# Altium footprint library 2020-11-22_16-30-49.PcbLib: 3 footprints
Each footprint in its own frame and in the unit in brackets; x right, y up, seen from the top. Pads: shape width x height; smd on the part's side, far side on the other; paste and mask are expansions set on the pad; w line width, h text height; cw(c..) or ccw(c..) is an arc to the next point about the centre after c.
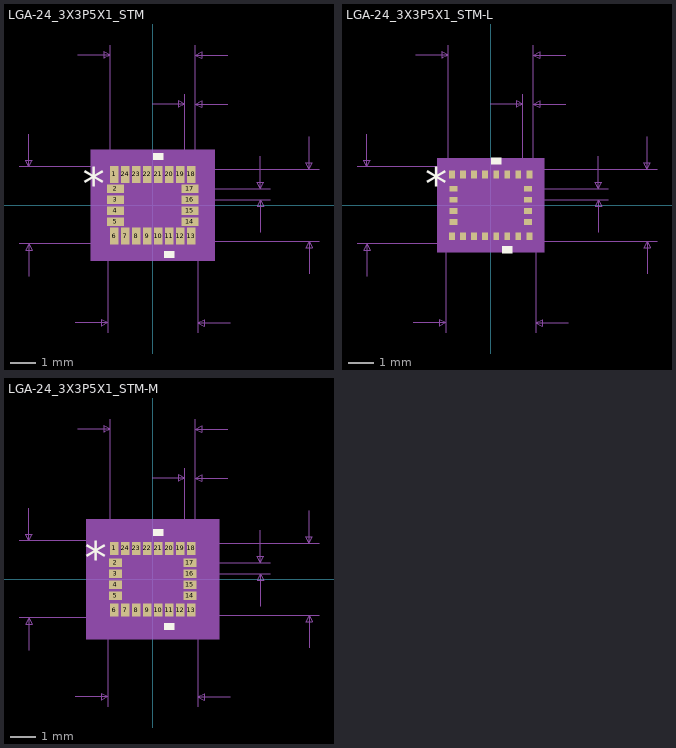
[diagram p0: the footprints below, top view; thin cyan lines are the x and y axes]

## LGA-24_3X3P5X1_STM [mm]
pads (24):
  rect 0.331x0.654 smd paste-0.065 mask+0.051: 1(-1.505,1.2) 6(-1.505,-1.2) 7(-1.075,-1.2) 8(-0.645,-1.2) 9(-0.215,-1.2) 10(0.215,-1.2) 11(0.645,-1.2) 12(1.075,-1.2) 13(1.505,-1.2) 18(1.505,1.2) 19(1.075,1.2) 20(0.645,1.2) 21(0.215,1.2) 22(-0.215,1.2) 23(-0.645,1.2) 24(-1.075,1.2)
  rect 0.654x0.331 smd paste-0.065 mask+0.051: 2(-1.45,0.645) 3(-1.45,0.215) 4(-1.45,-0.215) 5(-1.45,-0.645) 14(1.45,-0.645) 15(1.45,-0.215) 16(1.45,0.215) 17(1.45,0.645)
Top Overlay:
  region: 0.835,-1.781 0.454,-1.781 0.454,-2.035 0.835,-2.035
  region: 0.406,1.781 0.025,1.781 0.025,2.035 0.406,2.035
  text "*" at -2.73,0.225 h1.27
Mechanical 5:
  region: 2.412,-2.162 -2.412,-2.162 -2.412,2.162 2.412,2.162
Mechanical 7:
  lines w0.025: -5.206,-1.5 1.75,-1.5 ; -5.206,1.5 1.75,1.5 1.75,-4.956 ; -4.825,-2.77 -4.825,-1.5 ; -4.825,2.77 -4.825,1.5 ; -3.02,-4.575 -1.75,-4.575 ; -2.92,5.845 -1.65,5.845 ; -1.75,-4.956 -1.75,1.5 ; -1.65,0.645 -1.65,6.226 ; -0.02,3.94 1.25,3.94 ; 1.25,0.645 1.25,4.321 ; 1.45,0.215 4.571,0.215 ; 1.45,0.645 4.571,0.645 ; 1.505,-1.4 6.476,-1.4 ; 1.505,1.4 6.476,1.4 ; 1.65,4.321 1.65,0.645 1.65,6.226 ; 2.92,3.94 1.65,3.94 ; 2.92,5.845 1.65,5.845 ; 3.02,-4.575 1.75,-4.575 ; 4.19,-1.055 4.19,0.215 ; 4.19,1.915 4.19,0.645 ; 6.095,-2.67 6.095,-1.4 ; 6.095,2.67 6.095,1.4 ; -4.825,-1.5 -4.952,-1.754 -4.698,-1.754 -4.825,-1.5 ; -4.825,1.5 -4.952,1.754 -4.698,1.754 -4.825,1.5 ; -1.75,-4.575 -2.004,-4.448 -2.004,-4.702 -1.75,-4.575 ; -1.65,5.845 -1.904,5.972 -1.904,5.718 -1.65,5.845 ; 1.25,3.94 0.996,4.067 0.996,3.813 1.25,3.94 ; 1.65,3.94 1.904,4.067 1.904,3.813 1.65,3.94 ; 1.65,5.845 1.904,5.972 1.904,5.718 1.65,5.845 ; 1.75,-4.575 2.004,-4.448 2.004,-4.702 1.75,-4.575 ; 4.19,0.215 4.063,-0.039 4.317,-0.039 4.19,0.215 ; 4.19,0.645 4.063,0.899 4.317,0.899 4.19,0.645 ; 6.095,-1.4 5.968,-1.654 6.222,-1.654 6.095,-1.4 ; 6.095,1.4 5.968,1.654 6.222,1.654 6.095,1.4
  text "Default Padstyle: RX13p02Y25p75D0TSM" at -11.43,-9.401 h1.27
  text "Alt 1 Padstyle: OX60Y90D30P" at -8.572,-13.973 h1.27
  text "Alt 2 Padstyle: OX90Y60D30P" at -8.572,-15.497 h1.27
  text "0.017in/0.43mm" at 4.698,0.112 h0.64
  text "0.016in/0.4mm" at -0.614,4.448 h0.64
  text "0.13in/3.3mm" at -1.905,6.353 h0.64
  text "0.11in/2.8mm" at 6.603,-0.318 h0.64
  text "0.118in/3mm" at -8.826,-0.318 h0.64
  text "0.138in/3.5mm" at -2.064,-5.718 h0.64
Mechanical 13:
  lines w0.025: -1.75,0.23 -0.48,1.5 ; -1.75,-1.5 1.75,-1.5 ; -1.75,-1.5 -1.75,1.5 ; -1.75,-1.5 -1.75,-1.5 ; -1.75,1.5 1.75,1.5 ; -1.75,1.5 -1.75,1.5 ; 1.75,-1.5 1.75,-1.5 ; 1.75,-1.5 1.75,1.5 ; 1.75,1.5 1.75,1.5 ; -1.75,-0.785 -1.75,-0.505 -1.65,-0.505 -1.65,-0.785 -1.75,-0.785 ; -1.75,-0.355 -1.75,-0.075 -1.65,-0.075 -1.65,-0.355 -1.75,-0.355 ; -1.75,0.075 -1.75,0.355 -1.65,0.355 -1.65,0.075 -1.75,0.075 ; -1.75,0.505 -1.75,0.785 -1.65,0.785 -1.65,0.505 -1.75,0.505 ; -1.645,-1.5 -1.365,-1.5 -1.365,-1.4 -1.645,-1.4 -1.645,-1.5 ; -1.645,1.4 -1.365,1.4 -1.365,1.5 -1.645,1.5 -1.645,1.4 ; -1.215,-1.5 -0.935,-1.5 -0.935,-1.4 -1.215,-1.4 -1.215,-1.5 ; -1.215,1.4 -0.935,1.4 -0.935,1.5 -1.215,1.5 -1.215,1.4 ; -0.785,-1.5 -0.505,-1.5 -0.505,-1.4 -0.785,-1.4 -0.785,-1.5 ; -0.785,1.4 -0.505,1.4 -0.505,1.5 -0.785,1.5 -0.785,1.4 ; -0.355,-1.5 -0.075,-1.5 -0.075,-1.4 -0.355,-1.4 -0.355,-1.5 ; -0.355,1.4 -0.075,1.4 -0.075,1.5 -0.355,1.5 -0.355,1.4 ; 0.075,-1.5 0.355,-1.5 0.355,-1.4 0.075,-1.4 0.075,-1.5 ; 0.075,1.4 0.355,1.4 0.355,1.5 0.075,1.5 0.075,1.4 ; 0.505,-1.5 0.785,-1.5 0.785,-1.4 0.505,-1.4 0.505,-1.5 ; 0.505,1.4 0.785,1.4 0.785,1.5 0.505,1.5 0.505,1.4 ; 0.935,-1.5 1.215,-1.5 1.215,-1.4 0.935,-1.4 0.935,-1.5 ; 0.935,1.4 1.215,1.4 1.215,1.5 0.935,1.5 0.935,1.4 ; 1.365,-1.5 1.645,-1.5 1.645,-1.4 1.365,-1.4 1.365,-1.5 ; 1.365,1.4 1.645,1.4 1.645,1.5 1.365,1.5 1.365,1.4 ; 1.65,-0.785 1.75,-0.785 1.75,-0.505 1.65,-0.505 1.65,-0.785 ; 1.65,-0.355 1.75,-0.355 1.75,-0.075 1.65,-0.075 1.65,-0.355 ; 1.65,0.075 1.75,0.075 1.75,0.355 1.65,0.355 1.65,0.075 ; 1.65,0.505 1.75,0.505 1.75,0.785 1.65,0.785 1.65,0.505
  text "*" at -1.441,0.225 h1.27
Mechanical 15:
  region: -1.924,-1.754 -2.004,-1.754 -2.004,-1.064 -2.031,-1.064 -2.031,1.064 -2.004,1.064 -2.004,1.754 -1.924,1.754 -1.924,1.781 1.924,1.781 1.924,1.754 2.004,1.754 2.004,1.064 2.031,1.064 2.031,-1.064 2.004,-1.064 2.004,-1.754 1.924,-1.754 1.924,-1.781 -1.924,-1.781
  lines w0.152: -2.031,-1.064 -2.004,-1.064 -2.004,-1.754 -1.924,-1.754 -1.924,-1.781 1.924,-1.781 1.924,-1.754 2.004,-1.754 2.004,-1.064 2.031,-1.064 2.031,1.064 2.004,1.064 2.004,1.754 1.924,1.754 1.924,1.781 -1.924,1.781 -1.924,1.754 -2.004,1.754 -2.004,1.064 -2.031,1.064 -2.031,-1.064
3D body: height 0.25, standoff 0, extent 0,0 0.254,0.254

## LGA-24_3X3P5X1_STM-L [mm]
pads (24):
  rect 0.229x0.298 smd paste+0 mask+0: 1(-1.505,1.2) 6(-1.505,-1.2) 7(-1.075,-1.2) 8(-0.645,-1.2) 9(-0.215,-1.2) 10(0.215,-1.2) 11(0.645,-1.2) 12(1.075,-1.2) 13(1.505,-1.2) 18(1.505,1.2) 19(1.075,1.2) 20(0.645,1.2) 21(0.215,1.2) 22(-0.215,1.2) 23(-0.645,1.2) 24(-1.075,1.2)
  rect 0.298x0.229 smd paste+0 mask+0: 2(-1.45,0.645) 3(-1.45,0.215) 4(-1.45,-0.215) 5(-1.45,-0.645) 14(1.45,-0.645) 15(1.45,-0.215) 16(1.45,0.215) 17(1.45,0.645)
Top Overlay:
  region: 0.835,-1.603 0.454,-1.603 0.454,-1.857 0.835,-1.857
  region: 0.406,1.603 0.025,1.603 0.025,1.857 0.406,1.857
  text "*" at -2.552,0.225 h1.27
Mechanical 5:
  region: 2.082,-1.832 -2.082,-1.832 -2.082,1.832 2.082,1.832
Mechanical 7:
  lines w0.025: -5.206,-1.5 1.75,-1.5 ; -5.206,1.5 1.75,1.5 1.75,-4.956 ; -4.825,-2.77 -4.825,-1.5 ; -4.825,2.77 -4.825,1.5 ; -3.02,-4.575 -1.75,-4.575 ; -2.92,5.845 -1.65,5.845 ; -1.75,-4.956 -1.75,1.5 ; -1.65,0.645 -1.65,6.226 ; -0.02,3.94 1.25,3.94 ; 1.25,0.645 1.25,4.321 ; 1.45,0.215 4.571,0.215 ; 1.45,0.645 4.571,0.645 ; 1.505,-1.4 6.476,-1.4 ; 1.505,1.4 6.476,1.4 ; 1.65,4.321 1.65,0.645 1.65,6.226 ; 2.92,3.94 1.65,3.94 ; 2.92,5.845 1.65,5.845 ; 3.02,-4.575 1.75,-4.575 ; 4.19,-1.055 4.19,0.215 ; 4.19,1.915 4.19,0.645 ; 6.095,-2.67 6.095,-1.4 ; 6.095,2.67 6.095,1.4 ; -4.825,-1.5 -4.952,-1.754 -4.698,-1.754 -4.825,-1.5 ; -4.825,1.5 -4.952,1.754 -4.698,1.754 -4.825,1.5 ; -1.75,-4.575 -2.004,-4.448 -2.004,-4.702 -1.75,-4.575 ; -1.65,5.845 -1.904,5.972 -1.904,5.718 -1.65,5.845 ; 1.25,3.94 0.996,4.067 0.996,3.813 1.25,3.94 ; 1.65,3.94 1.904,4.067 1.904,3.813 1.65,3.94 ; 1.65,5.845 1.904,5.972 1.904,5.718 1.65,5.845 ; 1.75,-4.575 2.004,-4.448 2.004,-4.702 1.75,-4.575 ; 4.19,0.215 4.063,-0.039 4.317,-0.039 4.19,0.215 ; 4.19,0.645 4.063,0.899 4.317,0.899 4.19,0.645 ; 6.095,-1.4 5.968,-1.654 6.222,-1.654 6.095,-1.4 ; 6.095,1.4 5.968,1.654 6.222,1.654 6.095,1.4
  text "Default Padstyle: RX9p02Y11p75D0T" at -10.477,-9.223 h1.27
  text "Alt 1 Padstyle: OX60Y90D30P" at -8.572,-13.795 h1.27
  text "Alt 2 Padstyle: OX90Y60D30P" at -8.572,-15.319 h1.27
  text "0.017in/0.43mm" at 4.698,0.112 h0.64
  text "0.016in/0.4mm" at -0.614,4.448 h0.64
  text "0.13in/3.3mm" at -1.905,6.353 h0.64
  text "0.11in/2.8mm" at 6.603,-0.318 h0.64
  text "0.118in/3mm" at -8.826,-0.318 h0.64
  text "0.138in/3.5mm" at -2.064,-5.718 h0.64
Mechanical 13:
  lines w0.025: -1.75,0.23 -0.48,1.5 ; -1.75,-1.5 1.75,-1.5 ; -1.75,-1.5 -1.75,1.5 ; -1.75,-1.5 -1.75,-1.5 ; -1.75,1.5 1.75,1.5 ; -1.75,1.5 -1.75,1.5 ; 1.75,-1.5 1.75,-1.5 ; 1.75,-1.5 1.75,1.5 ; 1.75,1.5 1.75,1.5 ; -1.75,-0.785 -1.75,-0.505 -1.65,-0.505 -1.65,-0.785 -1.75,-0.785 ; -1.75,-0.355 -1.75,-0.075 -1.65,-0.075 -1.65,-0.355 -1.75,-0.355 ; -1.75,0.075 -1.75,0.355 -1.65,0.355 -1.65,0.075 -1.75,0.075 ; -1.75,0.505 -1.75,0.785 -1.65,0.785 -1.65,0.505 -1.75,0.505 ; -1.645,-1.5 -1.365,-1.5 -1.365,-1.4 -1.645,-1.4 -1.645,-1.5 ; -1.645,1.4 -1.365,1.4 -1.365,1.5 -1.645,1.5 -1.645,1.4 ; -1.215,-1.5 -0.935,-1.5 -0.935,-1.4 -1.215,-1.4 -1.215,-1.5 ; -1.215,1.4 -0.935,1.4 -0.935,1.5 -1.215,1.5 -1.215,1.4 ; -0.785,-1.5 -0.505,-1.5 -0.505,-1.4 -0.785,-1.4 -0.785,-1.5 ; -0.785,1.4 -0.505,1.4 -0.505,1.5 -0.785,1.5 -0.785,1.4 ; -0.355,-1.5 -0.075,-1.5 -0.075,-1.4 -0.355,-1.4 -0.355,-1.5 ; -0.355,1.4 -0.075,1.4 -0.075,1.5 -0.355,1.5 -0.355,1.4 ; 0.075,-1.5 0.355,-1.5 0.355,-1.4 0.075,-1.4 0.075,-1.5 ; 0.075,1.4 0.355,1.4 0.355,1.5 0.075,1.5 0.075,1.4 ; 0.505,-1.5 0.785,-1.5 0.785,-1.4 0.505,-1.4 0.505,-1.5 ; 0.505,1.4 0.785,1.4 0.785,1.5 0.505,1.5 0.505,1.4 ; 0.935,-1.5 1.215,-1.5 1.215,-1.4 0.935,-1.4 0.935,-1.5 ; 0.935,1.4 1.215,1.4 1.215,1.5 0.935,1.5 0.935,1.4 ; 1.365,-1.5 1.645,-1.5 1.645,-1.4 1.365,-1.4 1.365,-1.5 ; 1.365,1.4 1.645,1.4 1.645,1.5 1.365,1.5 1.365,1.4 ; 1.65,-0.785 1.75,-0.785 1.75,-0.505 1.65,-0.505 1.65,-0.785 ; 1.65,-0.355 1.75,-0.355 1.75,-0.075 1.65,-0.075 1.65,-0.355 ; 1.65,0.075 1.75,0.075 1.75,0.355 1.65,0.355 1.65,0.075 ; 1.65,0.505 1.75,0.505 1.75,0.785 1.65,0.785 1.65,0.505
  text "*" at -1.618,0.225 h1.27
Mechanical 15:
  region: -1.721,-1.602 -1.852,-1.602 -1.852,-0.861 -1.852,0.861 -1.852,1.602 -1.721,1.602 1.721,1.602 1.852,1.602 1.852,0.861 1.852,-0.861 1.852,-1.602 1.721,-1.602
  lines w0.152: -1.852,-0.861 -1.852,-1.602 -1.721,-1.602 ; -1.852,-0.861 -1.852,-0.861 ; -1.852,-0.861 -1.852,0.861 ; -1.852,0.861 -1.852,0.861 ; -1.852,0.861 -1.852,1.602 -1.721,1.602 ; -1.721,-1.602 1.721,-1.602 ; -1.721,-1.602 -1.721,-1.602 ; -1.721,1.602 -1.721,1.602 ; -1.721,1.602 1.721,1.602 ; 1.721,-1.602 1.852,-1.602 1.852,-0.861 ; 1.721,-1.602 1.721,-1.602 ; 1.721,1.602 1.721,1.602 ; 1.721,1.602 1.852,1.602 1.852,0.861 ; 1.852,-0.861 1.852,0.861 ; 1.852,-0.861 1.852,-0.861 ; 1.852,0.861 1.852,0.861
3D body: height 0.25, standoff 0, extent 0,0 0.254,0.254

## LGA-24_3X3P5X1_STM-M [mm]
pads (24):
  rect 0.331x0.502 smd paste+0 mask+0: 1(-1.505,1.2) 6(-1.505,-1.2) 7(-1.075,-1.2) 8(-0.645,-1.2) 9(-0.215,-1.2) 10(0.215,-1.2) 11(0.645,-1.2) 12(1.075,-1.2) 13(1.505,-1.2) 18(1.505,1.2) 19(1.075,1.2) 20(0.645,1.2) 21(0.215,1.2) 22(-0.215,1.2) 23(-0.645,1.2) 24(-1.075,1.2)
  rect 0.502x0.331 smd paste+0 mask+0: 2(-1.45,0.645) 3(-1.45,0.215) 4(-1.45,-0.215) 5(-1.45,-0.645) 14(1.45,-0.645) 15(1.45,-0.215) 16(1.45,0.215) 17(1.45,0.645)
Top Overlay:
  region: 0.835,-1.705 0.454,-1.705 0.454,-1.959 0.835,-1.959
  region: 0.406,1.705 0.025,1.705 0.025,1.959 0.406,1.959
  text "*" at -2.653,0.225 h1.27
Mechanical 5:
  region: 2.59,-2.34 -2.59,-2.34 -2.59,2.34 2.59,2.34
Mechanical 7:
  lines w0.025: -5.206,-1.5 1.75,-1.5 ; -5.206,1.5 1.75,1.5 1.75,-4.956 ; -4.825,-2.77 -4.825,-1.5 ; -4.825,2.77 -4.825,1.5 ; -3.02,-4.575 -1.75,-4.575 ; -2.92,5.845 -1.65,5.845 ; -1.75,-4.956 -1.75,1.5 ; -1.65,0.645 -1.65,6.226 ; -0.02,3.94 1.25,3.94 ; 1.25,0.645 1.25,4.321 ; 1.45,0.215 4.571,0.215 ; 1.45,0.645 4.571,0.645 ; 1.505,-1.4 6.476,-1.4 ; 1.505,1.4 6.476,1.4 ; 1.65,4.321 1.65,0.645 1.65,6.226 ; 2.92,3.94 1.65,3.94 ; 2.92,5.845 1.65,5.845 ; 3.02,-4.575 1.75,-4.575 ; 4.19,-1.055 4.19,0.215 ; 4.19,1.915 4.19,0.645 ; 6.095,-2.67 6.095,-1.4 ; 6.095,2.67 6.095,1.4 ; -4.825,-1.5 -4.952,-1.754 -4.698,-1.754 -4.825,-1.5 ; -4.825,1.5 -4.952,1.754 -4.698,1.754 -4.825,1.5 ; -1.75,-4.575 -2.004,-4.448 -2.004,-4.702 -1.75,-4.575 ; -1.65,5.845 -1.904,5.972 -1.904,5.718 -1.65,5.845 ; 1.25,3.94 0.996,4.067 0.996,3.813 1.25,3.94 ; 1.65,3.94 1.904,4.067 1.904,3.813 1.65,3.94 ; 1.65,5.845 1.904,5.972 1.904,5.718 1.65,5.845 ; 1.75,-4.575 2.004,-4.448 2.004,-4.702 1.75,-4.575 ; 4.19,0.215 4.063,-0.039 4.317,-0.039 4.19,0.215 ; 4.19,0.645 4.063,0.899 4.317,0.899 4.19,0.645 ; 6.095,-1.4 5.968,-1.654 6.222,-1.654 6.095,-1.4 ; 6.095,1.4 5.968,1.654 6.222,1.654 6.095,1.4
  text "Default Padstyle: RX13p02Y19p75D0TSM" at -11.43,-9.325 h1.27
  text "Alt 1 Padstyle: OX60Y90D30P" at -8.572,-13.897 h1.27
  text "Alt 2 Padstyle: OX90Y60D30P" at -8.572,-15.421 h1.27
  text "0.017in/0.43mm" at 4.698,0.112 h0.64
  text "0.016in/0.4mm" at -0.614,4.448 h0.64
  text "0.13in/3.3mm" at -1.905,6.353 h0.64
  text "0.11in/2.8mm" at 6.603,-0.318 h0.64
  text "0.118in/3mm" at -8.826,-0.318 h0.64
  text "0.138in/3.5mm" at -2.064,-5.718 h0.64
Mechanical 13:
  lines w0.025: -1.75,0.23 -0.48,1.5 ; -1.75,-1.5 1.75,-1.5 ; -1.75,-1.5 -1.75,1.5 ; -1.75,-1.5 -1.75,-1.5 ; -1.75,1.5 1.75,1.5 ; -1.75,1.5 -1.75,1.5 ; 1.75,-1.5 1.75,-1.5 ; 1.75,-1.5 1.75,1.5 ; 1.75,1.5 1.75,1.5 ; -1.75,-0.785 -1.75,-0.505 -1.65,-0.505 -1.65,-0.785 -1.75,-0.785 ; -1.75,-0.355 -1.75,-0.075 -1.65,-0.075 -1.65,-0.355 -1.75,-0.355 ; -1.75,0.075 -1.75,0.355 -1.65,0.355 -1.65,0.075 -1.75,0.075 ; -1.75,0.505 -1.75,0.785 -1.65,0.785 -1.65,0.505 -1.75,0.505 ; -1.645,-1.5 -1.365,-1.5 -1.365,-1.4 -1.645,-1.4 -1.645,-1.5 ; -1.645,1.4 -1.365,1.4 -1.365,1.5 -1.645,1.5 -1.645,1.4 ; -1.215,-1.5 -0.935,-1.5 -0.935,-1.4 -1.215,-1.4 -1.215,-1.5 ; -1.215,1.4 -0.935,1.4 -0.935,1.5 -1.215,1.5 -1.215,1.4 ; -0.785,-1.5 -0.505,-1.5 -0.505,-1.4 -0.785,-1.4 -0.785,-1.5 ; -0.785,1.4 -0.505,1.4 -0.505,1.5 -0.785,1.5 -0.785,1.4 ; -0.355,-1.5 -0.075,-1.5 -0.075,-1.4 -0.355,-1.4 -0.355,-1.5 ; -0.355,1.4 -0.075,1.4 -0.075,1.5 -0.355,1.5 -0.355,1.4 ; 0.075,-1.5 0.355,-1.5 0.355,-1.4 0.075,-1.4 0.075,-1.5 ; 0.075,1.4 0.355,1.4 0.355,1.5 0.075,1.5 0.075,1.4 ; 0.505,-1.5 0.785,-1.5 0.785,-1.4 0.505,-1.4 0.505,-1.5 ; 0.505,1.4 0.785,1.4 0.785,1.5 0.505,1.5 0.505,1.4 ; 0.935,-1.5 1.215,-1.5 1.215,-1.4 0.935,-1.4 0.935,-1.5 ; 0.935,1.4 1.215,1.4 1.215,1.5 0.935,1.5 0.935,1.4 ; 1.365,-1.5 1.645,-1.5 1.645,-1.4 1.365,-1.4 1.365,-1.5 ; 1.365,1.4 1.645,1.4 1.645,1.5 1.365,1.5 1.365,1.4 ; 1.65,-0.785 1.75,-0.785 1.75,-0.505 1.65,-0.505 1.65,-0.785 ; 1.65,-0.355 1.75,-0.355 1.75,-0.075 1.65,-0.075 1.65,-0.355 ; 1.65,0.075 1.75,0.075 1.75,0.355 1.65,0.355 1.65,0.075 ; 1.65,0.505 1.75,0.505 1.75,0.785 1.65,0.785 1.65,0.505
  text "*" at -1.517,0.225 h1.27
Mechanical 15:
  region: -2.178,-2.008 -2.258,-2.008 -2.258,-1.318 -2.258,1.318 -2.258,2.008 -2.178,2.008 2.178,2.008 2.258,2.008 2.258,1.318 2.258,-1.318 2.258,-2.008 2.178,-2.008
  lines w0.152: -2.258,-1.318 -2.258,-2.008 -2.178,-2.008 ; -2.258,-1.318 -2.258,-1.318 ; -2.258,-1.318 -2.258,1.318 ; -2.258,1.318 -2.258,1.318 ; -2.258,1.318 -2.258,2.008 -2.178,2.008 ; -2.178,-2.008 2.178,-2.008 ; -2.178,-2.008 -2.178,-2.008 ; -2.178,2.008 -2.178,2.008 ; -2.178,2.008 2.178,2.008 ; 2.178,-2.008 2.258,-2.008 2.258,-1.318 ; 2.178,-2.008 2.178,-2.008 ; 2.178,2.008 2.178,2.008 ; 2.178,2.008 2.258,2.008 2.258,1.318 ; 2.258,-1.318 2.258,1.318 ; 2.258,-1.318 2.258,-1.318 ; 2.258,1.318 2.258,1.318
3D body: height 0.25, standoff 0, extent 0,0 0.254,0.254